# EAGLE library part FPC-30WAY (library pimoroni-fpc)
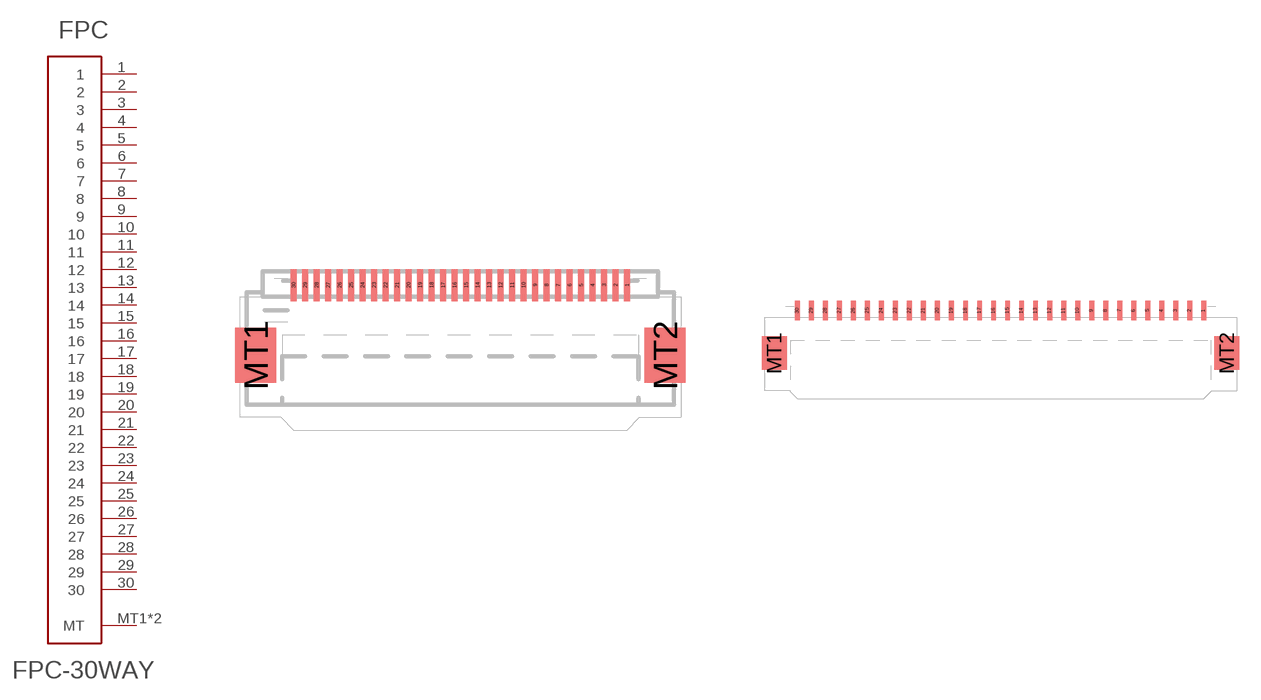
[diagram p25: symbol with the pads of FPC-0.5MM-30WAY; footprints FPC-0.5MM-30WAY, FPC-1.0MM-30WAY]

Designator prefix FPC

## FPC-30WAY0.5  [FPC-0.5MM-30WAY]
1  1
2  2
3  3
4  4
5  5
6  6
7  7
8  8
9  9
10  10
11  11
12  12
13  13
14  14
15  15
16  16
17  17
18  18
19  19
20  20
21  21
22  22
23  23
24  24
25  25
26  26
27  27
28  28
29  29
30  30
MT1  MT
MT2  MT

## FPC-30WAY1.0  [FPC-1.0MM-30WAY]
Pads as for FPC-0.5MM-30WAY

## Footprint FPC-0.5MM-30WAY (pad centres in mm)
smd 0.25 x 1.4: 1 7.25,0.7; 2 6.75,0.7; 3 6.25,0.7; 4 5.75,0.7; 5 5.25,0.7; 6 4.75,0.7; 7 4.25,0.7; 8 3.75,0.7; 9 3.25,0.7; 10 2.75,0.7; 11 2.25,0.7; 12 1.75,0.7; 13 1.25,0.7; 14 0.75,0.7; 15 0.25,0.7; 16 -0.25,0.7; 17 -0.75,0.7; 18 -1.25,0.7; 19 -1.75,0.7; 20 -2.25,0.7; 21 -2.75,0.7; 22 -3.25,0.7; 23 -3.75,0.7; 24 -4.25,0.7; 25 -4.75,0.7; 26 -5.25,0.7; 27 -5.75,0.7; 28 -6.25,0.7; 29 -6.75,0.7; 30 -7.25,0.7
smd 1.8 x 2.4: MT1 -8.9,-2.35; MT2 8.9,-2.35

## Footprint FPC-1.0MM-30WAY (pad centres in mm)
smd 0.35 x 1.4: 1 14.5,0.7; 2 13.5,0.7; 3 12.5,0.7; 4 11.5,0.7; 5 10.5,0.7; 6 9.5,0.7; 7 8.5,0.7; 8 7.5,0.7; 9 6.5,0.7; 10 5.5,0.7; 11 4.5,0.7; 12 3.5,0.7; 13 2.5,0.7; 14 1.5,0.7; 15 0.5,0.7; 16 -0.5,0.7; 17 -1.5,0.7; 18 -2.5,0.7; 19 -3.5,0.7; 20 -4.5,0.7; 21 -5.5,0.7; 22 -6.5,0.7; 23 -7.5,0.7; 24 -8.5,0.7; 25 -9.5,0.7; 26 -10.5,0.7; 27 -11.5,0.7; 28 -12.5,0.7; 29 -13.5,0.7; 30 -14.5,0.7
smd 1.8 x 2.4: MT1 -16.15,-2.35; MT2 16.15,-2.35